# Altium footprint library LV_module.PcbLib: 20 footprints (part 2 of 2)
Each footprint in its own frame and in the unit in brackets; x right, y up, seen from the top. Pads: shape width x height; smd on the part's side, far side on the other; paste and mask are expansions set on the pad; w line width, h text height; cw(c..) or ccw(c..) is an arc to the next point about the centre after c.
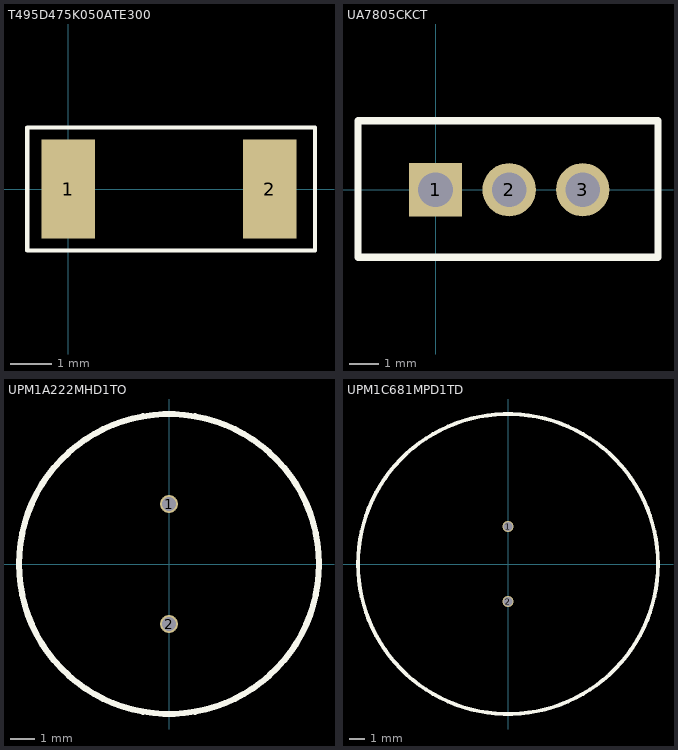
[diagram p1: the footprints below, top view; thin cyan lines are the x and y axes]

## T495D475K050ATE300 [mm] "KEMET Capacitor (Case D)"
pads (2):
  rect 1.3x2.4 smd: 1(0,0) 2(4.9,0)
Top Overlay:
  lines w0.1: -1,-1.5 -1,1.5 6,1.5 6,-1.5 -1,-1.5

## UA7805CKCT [mm] "5V Linear Voltage Regulator, 1.5A"
pads (3):
  rect 1.84x1.84 hole 1.2: 1(0,0)
  round 1.84 hole 1.2: 2(2.54,0) 3(5.08,0)
Top Overlay:
  lines w0.254: -2.675,-2.325 7.675,-2.325 7.675,2.375 -2.675,2.375 -2.675,-2.325

## UPM1A222MHD1TO [mm] "Nichicon 2200 uF"
pads (2):
  round 0.75 hole 0.6: 1(0,2.5) 2(0,-2.5)
Top Overlay:
  circle w0.254: c0,0 r6.25

## UPM1C681MPD1TD [mm] "Nichicon Capacitor 680uF"
pads (2):
  round 0.75 hole 0.6: 1(0,2.5) 2(0,-2.5)
Top Overlay:
  circle w0.254: c0,0 r10